# EAGLE library part SAMR21G18 (library IntegratedLib)
SMART ARM-Based Wireless Microcontroller. ISM>1GHZ (QFN-48)
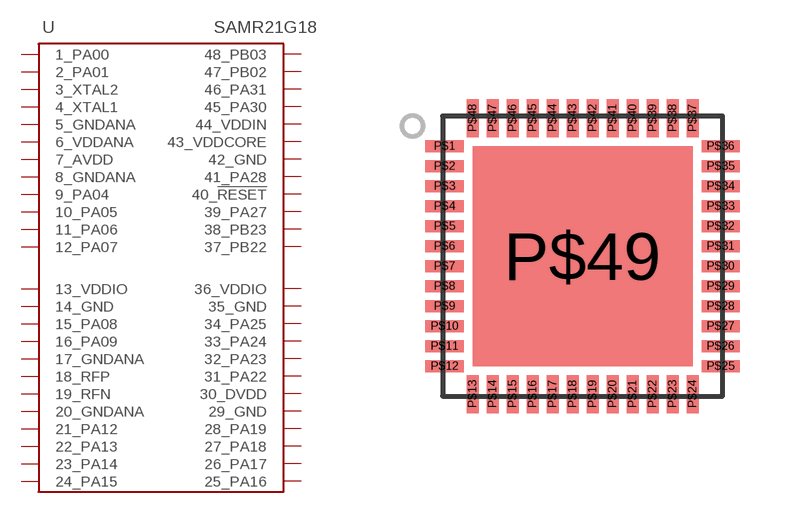
[diagram p29: symbol with the pads of QFN-48; footprint QFN-48]

Designator prefix U

## SAMR21G18 (FABRICANTE: ATMEL; PARTNUMBER: ATSAMR21G18; TIPO: CIRCUITO INTEGRADO)  [QFN-48]
P$1  1_PA00
P$2  2_PA01
P$3  3_XTAL2
P$4  4_XTAL1
P$5  5_GNDANA
P$6  6_VDDANA
P$7  7_AVDD
P$8  8_GNDANA
P$9  9_PA04
P$10  10_PA05
P$11  11_PA06
P$12  12_PA07
P$13  13_VDDIO
P$14  14_GND
P$15  15_PA08
P$16  16_PA09
P$17  17_GNDANA
P$18  18_RFP
P$19  19_RFN
P$20  20_GNDANA
P$21  21_PA12
P$22  22_PA13
P$23  23_PA14
P$24  24_PA15
P$25  25_PA16
P$26  26_PA17
P$27  27_PA18
P$28  28_PA19
P$29  29_GND
P$30  30_DVDD
P$31  31_PA22
P$32  32_PA23
P$33  33_PA24
P$34  34_PA25
P$35  35_GND
P$36  36_VDDIO
P$37  37_PB22
P$38  38_PB23
P$39  39_PA27
P$40  40_!RESET
P$41  41_PA28
P$42  42_GND
P$43  43_VDDCORE
P$44  44_VDDIN
P$45  45_PA30
P$46  46_PA31
P$47  47_PB02
P$48  48_PB03
P$49  42_GND

## Footprint QFN-48 (pad centres in mm)
smd 0.95 x 0.3: P$1 -3.45,2.75; P$2 -3.45,2.25; P$3 -3.45,1.75; P$4 -3.45,1.25; P$5 -3.45,0.75; P$6 -3.45,0.25; P$7 -3.45,-0.25; P$8 -3.45,-0.75; P$9 -3.45,-1.25; P$10 -3.45,-1.75; P$11 -3.45,-2.25; P$12 -3.45,-2.75; P$25 3.45,-2.75; P$26 3.45,-2.25; P$27 3.45,-1.75; P$28 3.45,-1.25; P$29 3.45,-0.75; P$30 3.45,-0.25; P$31 3.45,0.25; P$32 3.45,0.75; P$33 3.45,1.25; P$34 3.45,1.75; P$35 3.45,2.25; P$36 3.45,2.75
smd 0.3 x 0.95: P$13 -2.75,-3.45; P$14 -2.25,-3.45; P$15 -1.75,-3.45; P$16 -1.25,-3.45; P$17 -0.75,-3.45; P$18 -0.25,-3.45; P$19 0.25,-3.45; P$20 0.75,-3.45; P$21 1.25,-3.45; P$22 1.75,-3.45; P$23 2.25,-3.45; P$24 2.75,-3.45; P$37 2.75,3.45; P$38 2.25,3.45; P$39 1.75,3.45; P$40 1.25,3.45; P$41 0.75,3.45; P$42 0.25,3.45; P$43 -0.25,3.45; P$44 -0.75,3.45; P$45 -1.25,3.45; P$46 -1.75,3.45; P$47 -2.25,3.45; P$48 -2.75,3.45
smd 5.5 x 5.5: P$49 0,0